# EAGLE library part CEM3340 (library analog-audio-chips)
Voltage Controlled Oscillator designed by Curtis.
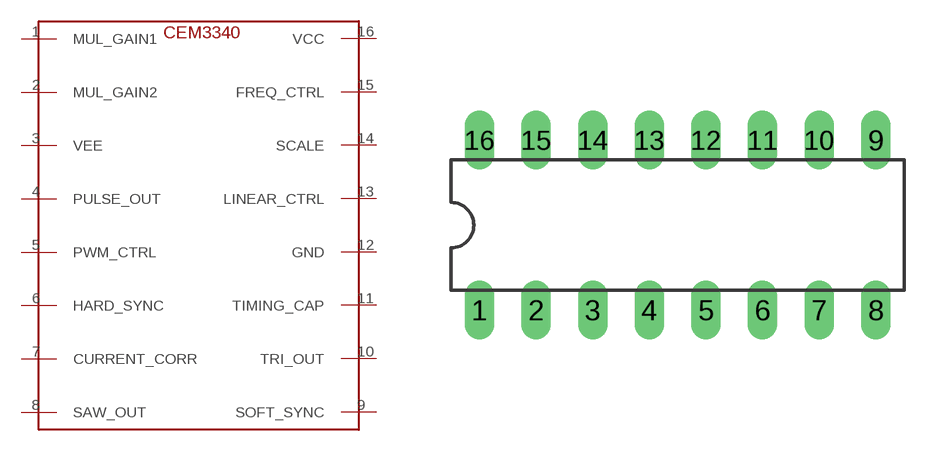
[diagram p2: symbol with the pads of DIL16; footprint DIL16]

Designator prefix -

## CEM3340  [DIL16]
1  MUL_GAIN1
2  MUL_GAIN2
3  VEE
4  PULSE_OUT
5  PWM_CTRL
6  HARD_SYNC
7  CURRENT_CORR
8  SAW_OUT
9  SOFT_SYNC
10  TRI_OUT
11  TIMING_CAP
12  GND
13  LINEAR_CTRL
14  SCALE
15  FREQ_CTRL
16  VCC

## Footprint DIL16 (pad centres in mm)
Dual In Line Package
drill 0.813 long: 1 -8.89,-3.81; 2 -6.35,-3.81; 3 -3.81,-3.81; 4 -1.27,-3.81; 5 1.27,-3.81; 6 3.81,-3.81; 7 6.35,-3.81; 8 8.89,-3.81; 9 8.89,3.81; 10 6.35,3.81; 11 3.81,3.81; 12 1.27,3.81; 13 -1.27,3.81; 14 -3.81,3.81; 15 -6.35,3.81; 16 -8.89,3.81